# EAGLE library part MICRO-SD_ALPS_SCHA5B200 (library MBHP_CORE_STM32F4v1.1.2)
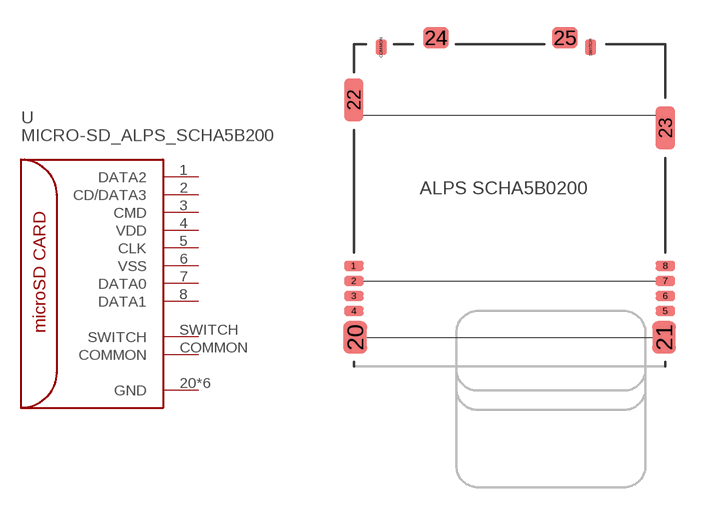
[diagram p6: symbol with the pads of MICRO-SD_ALPS_SCHA5B0200_MICRO_SD_PUSHPUSH; footprint MICRO-SD_ALPS_SCHA5B0200_MICRO_SD_PUSHPUSH]

Designator prefix -

## MICRO-SD_ALPS_SCHA5B200  [MICRO-SD_ALPS_SCHA5B0200_MICRO_SD_PUSHPUSH]
1  DATA2
2  CD/DATA3
3  CMD
4  VDD
5  CLK
6  VSS
7  DATA0
8  DATA1
20  GND
21  GND
22  GND
23  GND
24  GND
25  GND
COMMON  COMMON
SWITCH  SWITCH

## Footprint MICRO-SD_ALPS_SCHA5B0200_MICRO_SD_PUSHPUSH (pad centres in mm)
smd 0.9 x 0.45: 1 -0.062,4.675; 2 -0.062,3.975; 3 -0.062,3.275; 4 -0.062,2.575; 5 14.438,2.575; 6 14.438,3.275; 7 14.438,3.975; 8 14.438,4.675
smd 1.1 x 1.5: 20 0,1.35; 21 14.375,1.35
smd 0.9 x 2: 22 -0.062,12.4; 23 14.438,11.1
smd 1.2 x 1: 24 3.763,15.3; 25 9.762,15.3
smd 0.5 x 0.7: COMMON 1.212,14.85; SWITCH 10.963,14.85